# Altium footprint library SMPS_Module.PcbLib: 1 footprints
Each footprint in its own frame and in the unit in brackets; x right, y up, seen from the top. Pads: shape width x height; smd on the part's side, far side on the other; paste and mask are expansions set on the pad; w line width, h text height; cw(c..) or ccw(c..) is an arc to the next point about the centre after c.
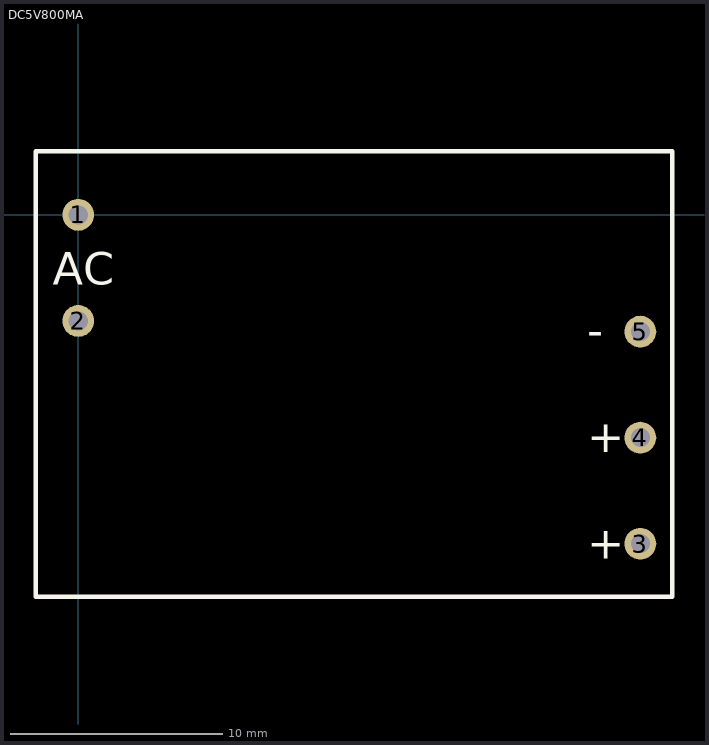
[diagram p0: the footprint, top view; thin cyan lines are the x and y axes]

## DC5V800MA [mm]
pads (5):
  round 1.5 hole 0.9: 1(0,0) 2(0,-5) 3(26.5,-15.5) 4(26.5,-10.5) 5(26.5,-5.5)
Top Overlay:
  lines w0.2: -2,-18 28,-18 28,3 -2,3 -2,-18
  text "AC" at -1.2,-3.3 h1.52
  text "+" at 24,-16.2 h1.52
  text "+" at 24,-11.2 h1.52
  text "-" at 24,-6.2 h1.52
3D body: height 18, standoff 0, extent -2,-18 28,3